# Altium schematic symbol library THU_VIEN_1.SchLib: 81 symbols
Pins are listed as number, name and electrical type; pins without a type are passive.

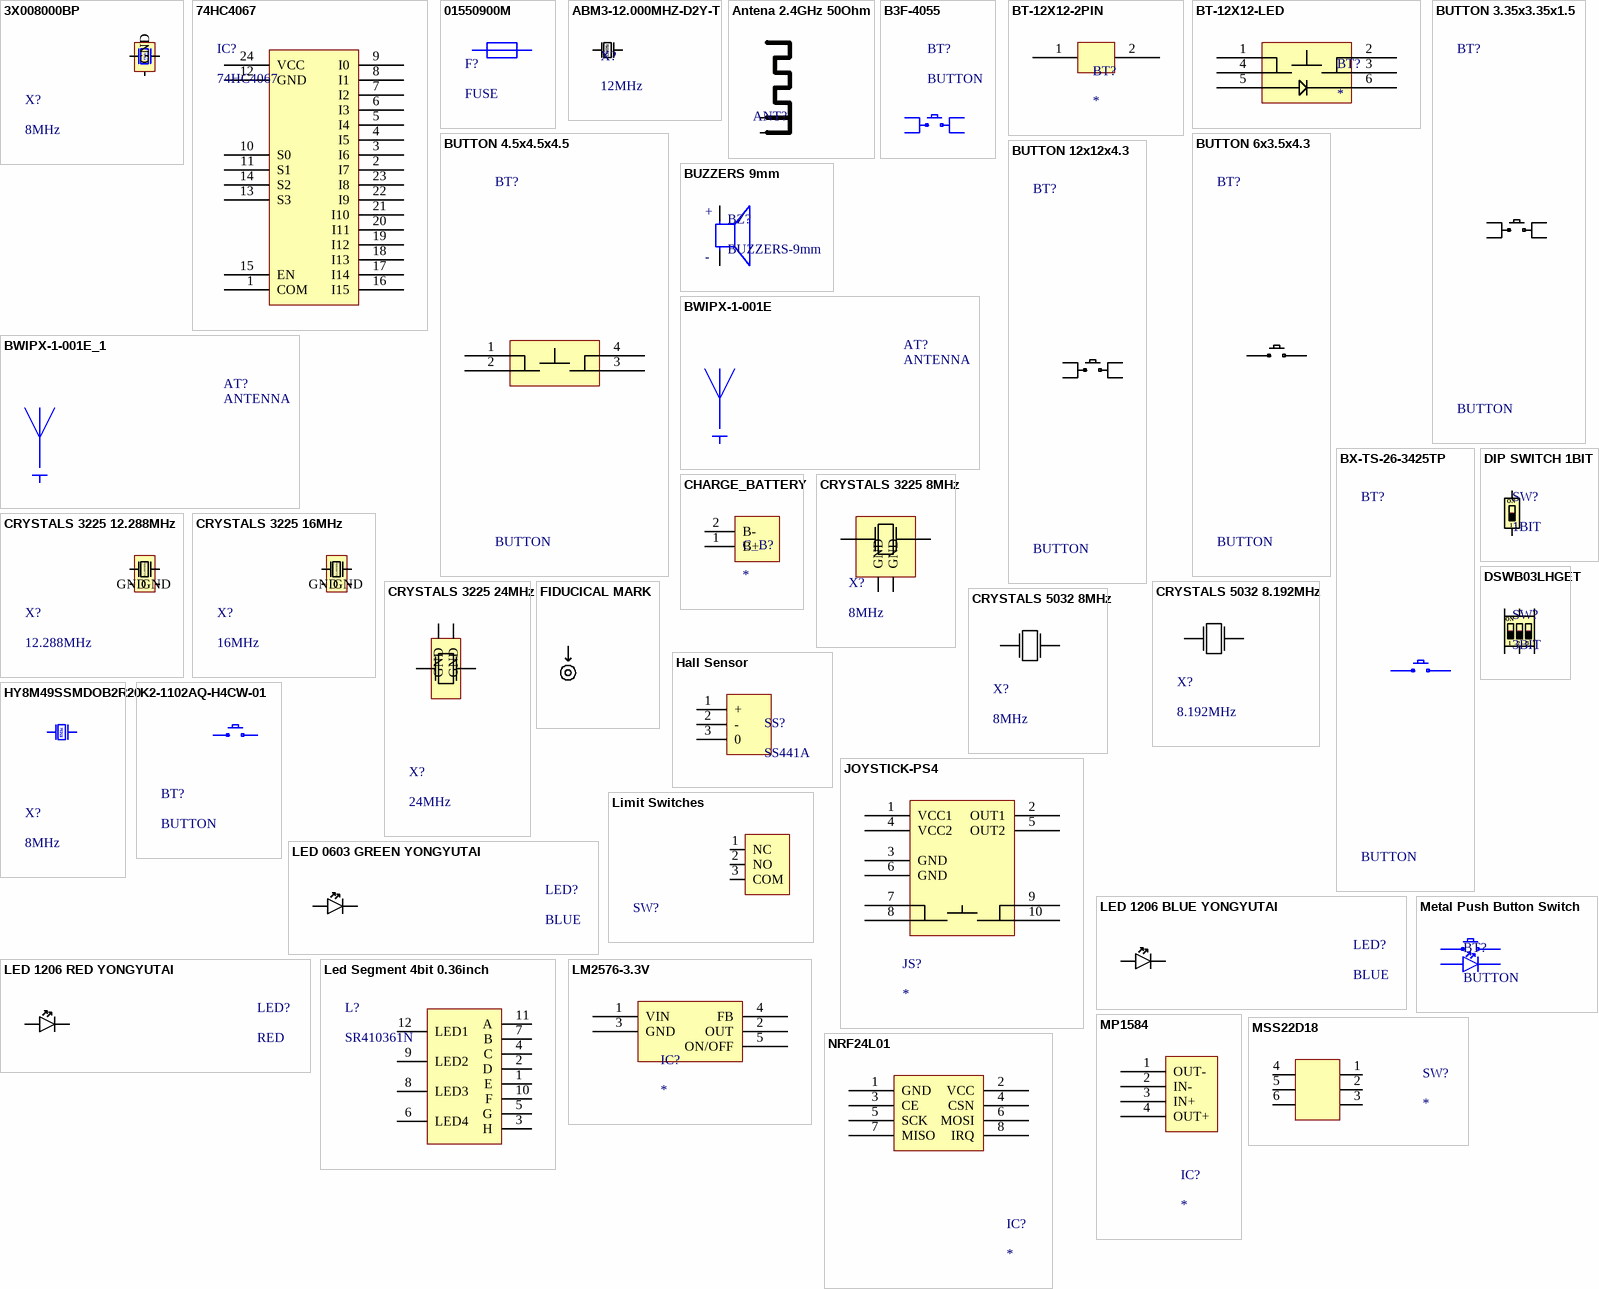
[diagram p0: symbols 3X008000BP to NRF24L01]

## 3X008000BP
designator X?, comment 8MHz
8MHz Surface Mount Crystal 12pF ±10ppm ±30ppm SMD3225-4P Crystals ROHS; Manufacturer: huaxindianzi; Mfr.Part #: 3X008000BP; Package: SMD3225-4P; LCSC Part #: C19723344; DigiKey Part Number: NO
footprint SMD3225-4P
pins: 1, 2 GND, 3, 4 GND

## 74HC4067
designator IC?
SSOP-24-208mil Analog Switches / Multiplexers ROHS; Manufacturer: Nexperia; Mfr.Part #: 74HC4067DB,118; So_Chan_Dan: 24; So_Chan_Cam: 0; Package: SSOP-24-208mil; Name: 74HC4067
footprint SSOP-24-208mil
pins: 1 COM, 2 I7, 3 I6, 4 I5, 5 I4, 6 I3, 7 I2, 8 I1, 9 I0, 10 S0, 11 S1, 12 GND, 13 S3, 14 S2, 15 EN, 16 I15, 17 I14, 18 I13, 19 I12, 20 I11, 21 I10, 22 I9, 23 I8, 24 VCC

## 01550900M
designator F?, comment FUSE
Rectangular prism Bracket type 1 SMD,9.7x5mm Fuseholders RoHS; Manufacturer: Littelfuse; Mfr.Part #: 01550900M; Package: SMD,5.0x9.7mm; LCSC Part #: C108518; DigiKey Part Number: F1889-ND
footprint SMD,5.0x9.7mm
pins: 1, 2

## ABM3-12.000MHZ-D2Y-T
designator X?, comment 12MHz
SMD5032 Crystals ROHS; Manufacturer: Abracon LLC; Mfr.Part #: ABM3-12.000MHZ-D2Y-T; Package: SMD5032; LCSC Part #: C148313
footprint SMD3215
pins: 1, 2

## Antena 2.4GHz 50Ohm
designator ANT?  (value not drawn)
footprint ANTENNA 2.4GHz
pins: 1 GND, 2

## B3F-4055
designator BT?, comment BUTTON
Tactile Switch SPST 7.3mm 12mm x 12mm Through Hole; Manufacturer: OMRON; Mfr.Part #: B3F-4055; LCSC Part #: C84931; Package: Through Hole-4P,12x12mm; DigiKey Part Number: SW414-ND
pins: 1, 2, 3, 4

## BT-12X12-2PIN
designator BT?
footprint BUTTON-12X12-2PIN
pins: 1 14, 2 15

## BT-12X12-LED
designator BT?
footprint BUTTON-12x12-LED
pins: 1 11, 2 13, 3 14, 4 12, 5, 6

## BUTTON 3.35x3.35x1.5
designator BT?, comment BUTTON
3.35mm 1.5mm 50mA Round Button Brick nogging 3.35mm 180gf 12V SMD Tactile Switches ROHS; Manufacturer: BZCN; Mfr.Part #: TSA007A1518B03; Name: BUTTON 3.35x3.35x1.5; So_Chan_Dan: 4; So_Chan_Cam: 0; Package: SMD
footprint BUTTON-3X3X1.5-4PIN
pins: 1, 2, 3, 4

## BUTTON 4.5x4.5x4.5
designator BT?, comment BUTTON
4.5mm 4.5mm Round Button 50mA Brick nogging 4.5mm SPST 12V SMD,4.5x4.5mm Tactile Switches ROHS; Manufacturer: XUNPU; Mfr.Part #: TS-1009S-04526; Name: BUTTON 4.5x4.5x4.5; So_Chan_Dan: 4; So_Chan_Cam: 0; Package: SMD,4.5x4.5mm
footprint SMD,4.5x4.5mm
pins: 1 11, 2 12, 3 14, 4 13

## BUTTON 6x3.5x4.3
designator BT?, comment BUTTON
None Without 50mA 6mm 100MΩ 50,000 times 12V 260gf 3.5mm 4.3mm Round Button Standing paste SPST SMD Tactile Switches ROHS; Manufacturer: HCTL; Mfr.Part #: TC-3602-4.3-260G; Name: BUTTON 6x3.5x4.3; So_Chan_Dan: 2; So_Chan_Cam: 0; Package: BUTTON-6X3.5x4.3-2PIN
footprint BUTTON-6X3.5x4.3-2PIN
pins: 1, 2

## BUTTON 12x12x4.3
designator BT?, comment BUTTON
12mm 4.3mm 50mA Round Button Standing paste 12mm SPST 100MΩ 250gf 12V SMD,12x12mm Tactile Switches ROHS; Manufacturer: Hanbo Electronic; Mfr.Part #: TS-1103S; Name: BUTTON 12x12x4.3; So_Chan_Dan: 0; So_Chan_Cam: 4; Package: SMD,12x12mm
footprint SMD,12x12mm
pins: 1 11, 2 12, 3 14, 4 13

## BUZZERS 9mm
designator BZ?, comment BUZZERS-9mm
85dB Externally Driven Magnetic 2.7kHz Plugin,D=9mm Buzzers ROHS; Manufacturer: Jiangsu Huaneng Elec; Mfr.Part #: QMB-09B-03; Name: BUZZER-9mm; So_Chan_Cam: 2; So_Chan_Dan: 0; Package: Plugin,D=9mm
footprint Plugin,D=9mm
pins: 1, 2
text: +; -

## BWIPX-1-001E
designator AT?, comment ANTENNA
Connector Receptacle IPEX Male Pin 50Ω Surface Mount; Manufacturer: BAT WIRELESS; Mfr.Part #: BWIPX-1-001E; Package: SMD; LCSC Part #: C496552; DigiKey Part Number: NO; ComponentLink1Description: Link; ComponentLink1URL: https://www.lcsc.com/product-detail/C496552.html?s_z=n_BWIPX-1-001E; ComponentLink2Description: Link 1
footprint IPEX-SMD
pins: 1, 2 GND, 3 GND, 4 GND

## BWIPX-1-001E_1
designator AT?, comment ANTENNA
Connector Receptacle IPEX Male Pin 50Ω Surface Mount; Manufacturer: BAT WIRELESS; Mfr.Part #: BWIPX-1-001E; Package: SMD; LCSC Part #: C496552; DigiKey Part Number: NO; ComponentLink1Description: Link; ComponentLink1URL: https://www.lcsc.com/product-detail/C496552.html?s_z=n_BWIPX-1-001E; ComponentLink2Description: Link 1
footprint IPEX-SMD
pins: 1, 2 GND, 3 GND, 4 GND

## BX-TS-26-3425TP
designator BT?, comment BUTTON
Tactile Switch SPST 260gf 2.5mm Gull Wing 3mm x 4mm Surface Mount; Manufacturer: Bossie; Mfr.Part #: BX-TS-26-3425TP; Package: SMD,3x4mm; LCSC Part #: C18078118; DigiKey Part Number: NO; ComponentLink1Description: Link; ComponentLink1URL: https://www.lcsc.com/product-detail/C18078118.html?s_z=n_c18078118; ComponentLink2Description: Link 1
footprint SMD,3x4mm
pins: 1, 2

## CHARGE_BATTERY
designator C_B?
footprint CHARGE_BATTERY
pins: 1 B+, 2 B-

## CRYSTALS 3225 8MHz
designator X?, comment 8MHz
8MHz 20pF ±10ppm ±30ppm SMD3225-4P Crystals ROHS; Manufacturer: Huiyuan crystal; Mfr.Part #: HY8MSMD3225OB1R30; Name: CRYSTALS 3225 8MHz; So_Chan_Dan: 4; So_Chan_Cam: 0; Package: SMD3225-4P
footprint SMD3225-4P
pins: 1, 2 GND, 3, 4 GND

## CRYSTALS 3225 12.288MHz
designator X?, comment 12.288MHz
12.288MHz Surface Mount Crystal 12pF ±10ppm ±20ppm SMD3225-4P Crystals ROHS; Manufacturer: Yajingxin; Mfr.Part #: TXM12.288M0004322FBCDO00T; Name: CRYSTALS 3225 12.288MHz; So_Chan_Dan: 4; So_Chan_Cam: 0; Package: SMD3225-4P
footprint SMD3225-4P
pins: 1, 2 GND, 3, 4 GND

## CRYSTALS 3225 16MHz
designator X?, comment 16MHz
16MHz 20pF ±10ppm SMD3225-4P Crystals ROHS; Manufacturer: Huiyuan crystal; Mfr.Part #: HY16MSMD3225OB1R30; Name: CRYSTALS 3225 16MHz; So_Chan_Dan: 4; So_Chan_Cam: 0; Package: SMD3225-4P
footprint SMD3225-4P
pins: 1, 2 GND, 3, 4 GND
text: 12.288MHz

## CRYSTALS 3225 24MHz
designator X?, comment 24MHz
24MHz Surface Mount Crystal 20pF ±20ppm ±20ppm SMD3225-4P Crystals ROHS; Manufacturer: TAITIEN Elec; Mfr.Part #: XXHCCLNANF-24MHZ; Name: CRYSTALS 3225 24MHz; So_Chan_Dan: 4; So_Chan_Cam: 0; Package: SMD3225-4P
footprint SMD3225-4P
pins: 1, 2 GND, 3, 4 GND

## CRYSTALS 5032 8.192MHz
designator X?, comment 8.192MHz
12pF 8.192MHz ±50ppm ±30ppm Surface Mount Crystal SMD5032 Crystals ROHS; Manufacturer: HCI; Mfr.Part #: XC53G2-8.192-F12JGDTL; Name: CRYSTALS 5032 8.192MHz; So_Chan_Dan: 2; So_Chan_Cam: 0; Package: SMD5032
footprint SMD5032
pins: 1, 2

## CRYSTALS 5032 8MHz
designator X?, comment 8MHz
8MHz 20pF ±10ppm SMD5032 Crystals ROHS; Manufacturer: SST; Mfr.Part #: S50328M20PF20PPMB; Name: CRYSTALS 5032 8MHz; So_Chan_Dan: 2; So_Chan_Cam: 0; Package: SMD5032
footprint SMD5032
pins: 1, 2

## DIP SWITCH 1BIT
designator SW?, comment 1BIT
1 Digit SPST Red Flat Toggle, Raised Style Plugin,9.9x4mm DIP Switches ROHS; Manufacturer: DongGuan KINGTEK Industrial Co.,LTD; Mfr.Part #: DSWB01LHGET; Name: DIP SWITCH 1BIT; So_Chan_Dan: 0; So_Chan_Cam: 2; Package: Plugin
footprint DIP SWITCH 1BIT
pins: 1, 2
text: ON

## DSWB03LHGET
designator SW?, comment 3BIT
3 SPST Red Slide, Rocked Through Hole DIP Switches ROHS; Manufacturer: YE; Mfr.Part #: DSWB03LHGET; Package: Through Hole; LCSC Part #: C99420
footprint DIP SWITCH 3BIT
pins: 1, 2, 3, 4, 5, 6
text: ON

## FIDUCICAL MARK
designator Mark?
Fiducial mark
footprint Fiducial mark

## Hall Sensor
designator SS?, comment SS441A
115Gs 20Gs TO-92S Hall Sensor ROHS
footprint TO-92S
pins: 1 +, 2 -, 3 0

## HY8M49SSMDOB2R20
designator X?, comment 8MHz
Crystal 8MHz ±20ppm 20pF 60Ω HC-49S-SMD; Manufacturer: Huiyuan crystal; Mfr.Part #: HY8M49SSMDOB2R20; Package: HC-49S-SMD; LCSC Part #: C5265773; DigiKey Part Number: NO
footprint HC-49S-SMD
pins: 1, 2
text: 8Mhz

## JOYSTICK-PS4
designator JS?
footprint JOYTICK-PS4
footprint JOYTICK-PS4
pins: 1 VCC1, 2 OUT1, 3 GND, 4 VCC2, 5 OUT2, 6 GND, 7 BT1, 8 BT2, 9 BT3, 10 BT4

## K2-1102AQ-H4CW-01
designator BT?, comment BUTTON
Tactile Switch 250gf 7.5mm 6mm x 6mm Through Hole, Right Angle; Manufacturer: Korean Hroparts Elec; Mfr.Part #: K2-1102AQ-H4CW-01; Package: Through Hole,Right Angle,6x6mm; LCSC Part #: C961738; DigiKey Part Number: NO; ComponentLink1Description: Link; ComponentLink1URL: https://www.lcsc.com/product-detail/C961738.html?s_z=n_K2-1102AQ-H4CW-01; ComponentLink2Description: Link 1; ComponentLink2URL: *
footprint K2-1102AQ-H4CW-01
pins: 1, 2

## LED 0603 GREEN YONGYUTAI
designator LED?, comment BLUE
Emerald 2.7V~3.2V 25mA -40℃~+85℃ 510nm~531nm 0603 LED Indication - Discrete ROHS; Manufacturer: YONGYUTAI; Mfr.Part #: YLED0603G; Name: LED 0603 GREEN YONGYUTAI; So_Chan_Dan: 2; So_Chan_Cam: 0; Package: 0603
footprint LED-0603
pins: 1 A, 2 K

## LED 1206 BLUE YONGYUTAI
designator LED?, comment BLUE
1206 LED Indication - Discrete ROHS; Manufacturer: YONGYUTAI; Mfr.Part #: YLED1206B; So_Chan_Cam: 0; So_Chan_Dan: 2; Name: LED 1206 BLUE YONGYUTAI; Package: 1206
footprint LED-BLUE-1206
pins: 1 A, 2 K

## LED 1206 RED YONGYUTAI
designator LED?, comment RED
1206 LED Indication - Discrete ROHS; Manufacturer: YONGYUTAI; Mfr.Part #: YLED1206R; So_Chan_Cam: 0; So_Chan_Dan: 2; Name: LED 1206 RED YONGYUTAI; Package: 1206
footprint LED-RED-1206
pins: 1 A, 2 K

## Led Segment 4bit 0.36inch
designator L?, comment SR410361N
Red 4Bit Common anode 0.36 Plugin Led Segment Display ROHS
footprint LED_7_THANH_4_SO_0.36_INCH
pins: 1 E, 2 D, 3 H, 4 C, 5 G, 6 LED4, 7 B, 8 LED3, 9 LED2, 10 F, 11 A, 12 LED1

## Limit Switches
designator SW?  (value not drawn)
1A 30V Single Pole Double Throw (SPDT) Micro switch 1,000,000 Times Plugin Limit Switches ROHS; Manufacturer: XKB Connection; Mfr.Part #: DM1-150D-1; So_Chan_Dan: 0; So_Chan_Cam: 3; Package: Plugin; Name: Limit Switches
footprint Plugin, P=5.08
pins: 1 NC, 2 NO, 3 COM

## LM2576-3.3V
designator IC?
footprint TO220-5PIN
pins: 1 VIN, 2 OUT, 3 GND, 4 FB, 5 ON/OFF

## Metal Push Button Switch
designator BT?, comment BUTTON
ComponentLink1Description: Link
footprint Metal Push Button Switch
pins: 1, 2, 3, 4

## MP1584
designator IC?
footprint MP1584
pins: 1 OUT-, 2 IN-, 3 IN+, 4 OUT+

## MSS22D18
designator SW?
SMD
footprint MSS22D18 SMD
pins: 1 77, 2 78, 3 79, 4, 5 81, 6 82

## NRF24L01
designator IC?
footprint NRF24L01
pins: 1 GND, 2 VCC, 3 CE, 4 CSN, 5 SCK, 6 MOSI, 7 MISO, 8 IRQ

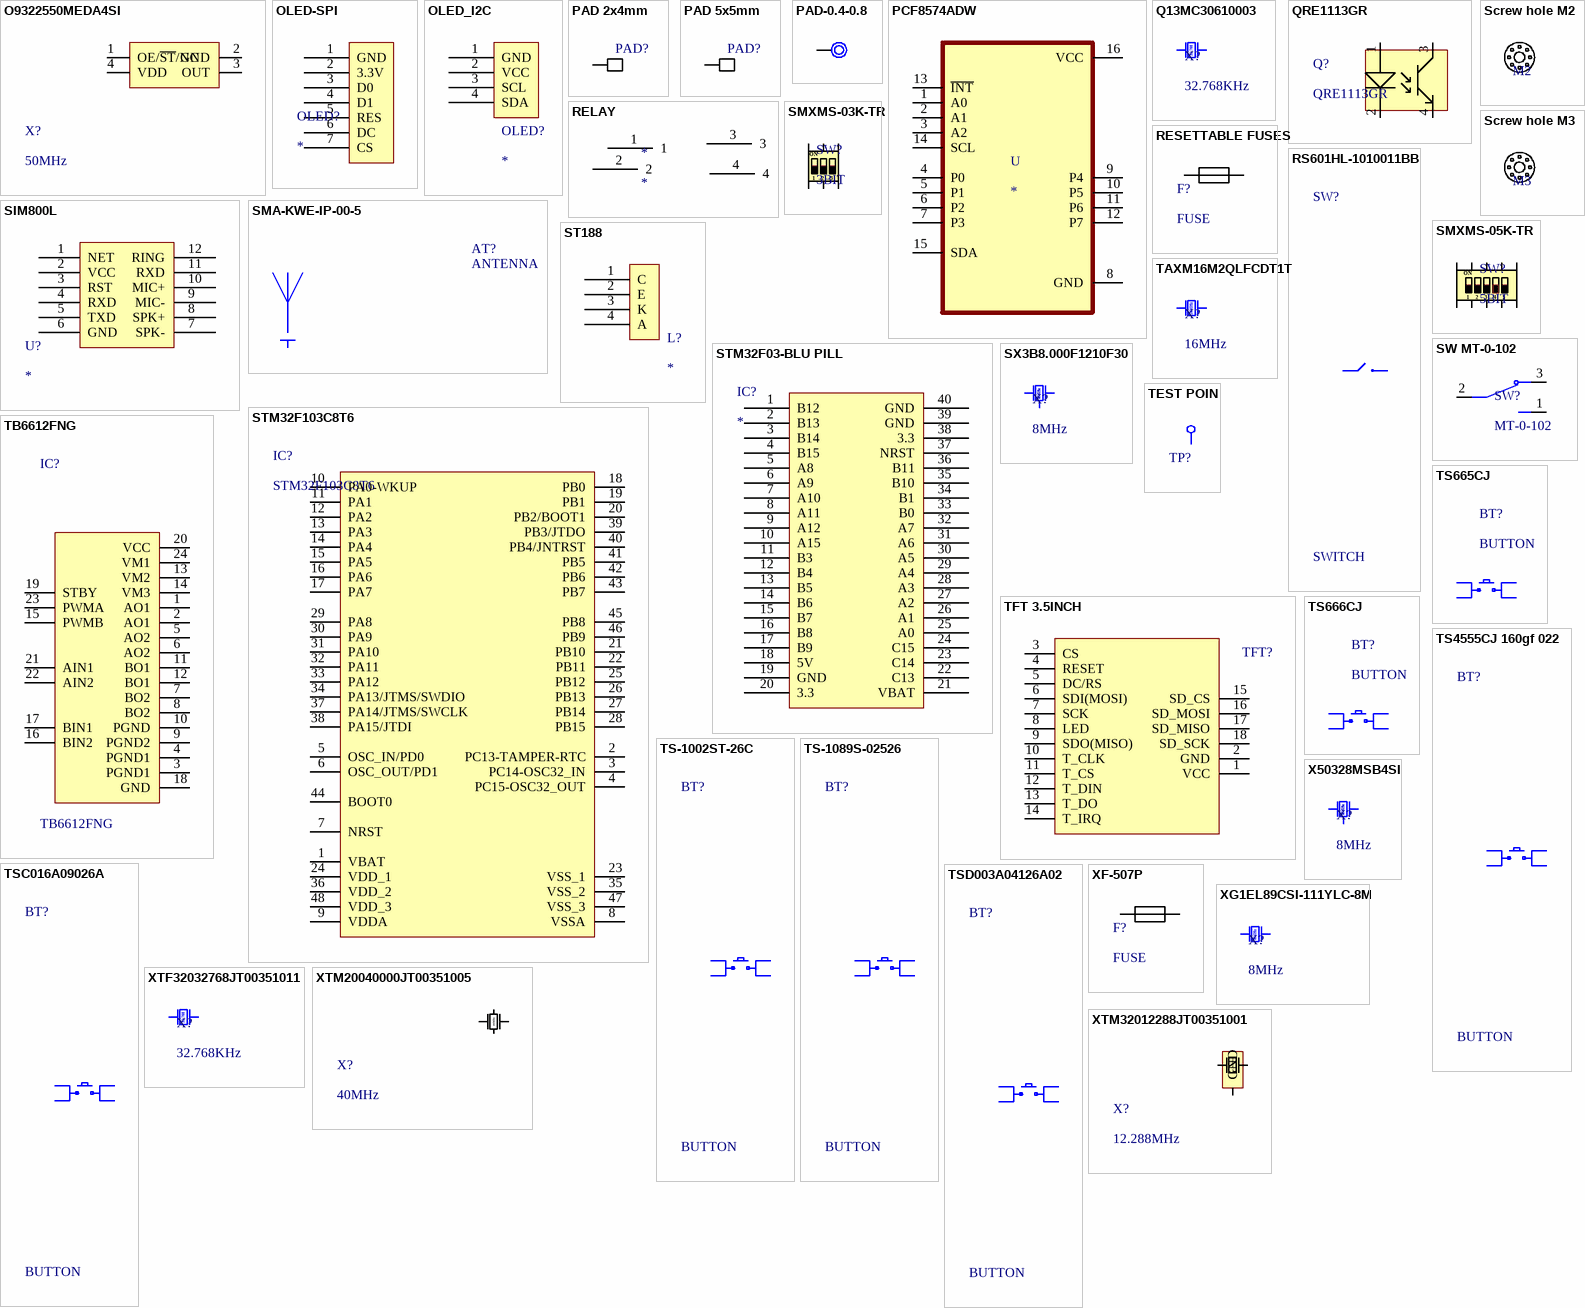
[diagram p1: symbols O9322550MEDA4SI to XTM32012288JT00351001]

## O9322550MEDA4SI
designator X?, comment 50MHz
3.3V CMOS ±30ppm 50MHz SMD3225-4P Oscillators RoHS; Manufacturer: YXC Crystal Oscillators; Mfr.Part #: O9322550MEDA4SI; Package: SMD3225-4P; LCSC Part #: C496690; DigiKey Part Number: NO
footprint SMD3225-4P
pins: 1 OE/~{ST}/NC, 2 GND, 3 OUT, 4 VDD

## OLED-SPI
designator OLED?
footprint OLED-SPI-2
pins: 1 GND, 2 3.3V, 3 D0, 4 D1, 5 RES, 6 DC, 7 CS

## OLED_I2C
designator OLED?
0.96
footprint OLED_I2C_0.96
pins: 1 GND, 2 VCC, 3 SCL, 4 SDA

## PAD 2x4mm
designator PAD?  (value not drawn)
footprint PAD, 2x4mm
pins: 1

## PAD 5x5mm
designator PAD?, comment PAD 2x4mm  (value not drawn)
footprint PAD, 2x4mm
pins: 1

## PAD-0.4-0.8
designator ?
footprint PAD,0.4,0.8
pins: 0

## PCF8574ADW
designator U
Remote 8-Bit I/O Expander for I2C-Bus 16-SOIC -40 to 85; MF: Texas Instruments; MP: PCF8574ADW; Mouser-Purchase-URL: https://snapeda.com/shop?store=Mouser&id=554599; SnapEDA_Link: https://www.snapeda.com/parts/PCF8574ADW/Texas%20Instruments/view-part/554599/?ref=snap; DigiKey-Purchase-URL: https://snapeda.com/shop?store=DigiKey&id=554599; Package: SOIC-16 Texas Instruments; Price: None; Availability: Warning; Texas_Instruments-Purchase-URL: https://snapeda.com/shop?store=Texas+Instruments&id=554599; Value: *
footprint SO16W
pins: 1 A0, 2 A1, 3 A2, 4 P0, 5 P1, 6 P2, 7 P3, 8 GND (power), 9 P4, 10 P5, 11 P6, 12 P7, 13 ~{INT}, 14 SCL, 15 SDA, 16 VCC (power)

## Q13MC30610003
designator X?, comment 32.768KHz
Crystal 32.768kHz ±20ppm 12.5pF 35kΩ MC-306; Manufacturer: EPSON; Mfr.Part #: Q13MC30610003; Package: MC-306; LCSC Part #: C16320; DigiKey Part Number: SER2407TR-ND
footprint MC-306
pins: 1, 4
text: 32.768

## QRE1113GR
designator Q?
20mA 1mm SMD-4P Reflective Optical Interrupters ROHS; Manufacturer: onsemi; So_Chan_Dan: 4; So_Chan_Cam: 0; Mfr.Part #: QRE1113GR; Package: SMD-4P; Name: QRE1113GR
footprint SMD-4P
pins: 1, 2, 3, 4

## RELAY
designator *
footprint Plugin,10.2x18.4mm
pins: 1, 2, 3, 4

## RESETTABLE FUSES
designator F?, comment FUSE
60V 500mA 40A 1A Plugin Resettable Fuses ROHS; Manufacturer: RUILON(Shenzhen Ruilongyuan Elec); Mfr.Part #: RL60-050; So_Chan_Dan: 0; So_Chan_Cam: 2; Package: Plugin; Name: RESETTABLE FUSES
footprint Plugin
pins: 1, 2

## RS601HL-1010011BB
designator SW?, comment SWITCH
SPST 10,000 times 3A Solder 250V None Plugin Rocker Switches ROHS; Manufacturer: HCTL; Mfr.Part #: RS601HL-1010011BB; Package: Through Hole,15x10.5mm; LCSC Part #: C2885782; DigiKey Part Number: NO
footprint Plugin,Rocker Switches
pins: 1, 2

## Screw hole M2
designator S?, comment M2
footprint Screw hole M2

## Screw hole M3
designator ?, comment M3
footprint Screw hole M3

## SIM800L
designator U?
footprint SIM800L
pins: 1 NET "50", 2 VCC, 3 RST, 4 RXD, 5 TXD, 6 GND, 7 SPK-, 8 SPK+, 9 MIC-, 10 MIC+, 11 RXD, 12 RING "50"

## SMA-KWE-IP-00-5
designator AT?, comment ANTENNA
SMA to IPEX Gen 1 Coaxial Cables (RF) Assemblies RoHS; Manufacturer: SAMZO; Mfr.Part #: SMA-KWE-IP-00-5; Package: Through Hole, Right Angle; LCSC Part #: C47121936; DigiKey Part Number: NO; ComponentLink1Description: Link; ComponentLink1URL: https://www.lcsc.com/product-detail/C47121936.html; ComponentLink2Description: Link 1
footprint ANTENNA, Through Hole, Right Angle
pins: 1 GND

## SMXMS-03K-TR
designator SW?, comment 3BIT
3 24V Black 25mA SMD-6P,5.4x5.4mm DIP Switches ROHS; Manufacturer: SM Switch; Mfr.Part #: SMXMS-03K-TR; Package: SMD-6P,5.4x5.4mm; LCSC Part #: C19272175
footprint SMD-6P,5.4x5.4mm
pins: 1, 2, 3, 4, 5, 6
text: ON

## SMXMS-05K-TR
designator SW?, comment 5BIT
5 Digits 24V Black 25mA SMD-10P,7.9x5.4mm DIP Switches ROHS; Manufacturer: SM Switch; Mfr.Part #: SMXMS-05K-TR; So_Chan_Dan: 5; So_Chan_Cam: 0; Package: SMD-10P,7.9x5.4mm; Name: SMXMS-05K-TR
footprint SMD-10P,7.9x5.4mm
pins: 1, 2, 3, 4, 5, 6, 7, 8, 9, 10
text: ON

## ST188
designator L?
footprint ST188
pins: 1 C, 2 E, 3 K, 4 A

## STM32F03-BLU PILL
designator IC?
footprint STM32F103C8T6 - Blue Pill
pins: 1 B12, 2 B13, 3 B14, 4 B15, 5 A8, 6 A9, 7 A10, 8 A11, 9 A12, 10 A15, 11 B3, 12 B4, 13 B5, 14 B6, 15 B7, 16 B8, 17 B9, 18 5V, 19 GND, 20 3.3, 21 VBAT, 22 C13, 23 C14, 24 C15, 25 A0, 26 A1, 27 A2, 28 A3, 29 A4, 30 A5, 31 A6, 32 A7, 33 B0, 34 B1, 35 B10, 36 B11, 37 NRST, 38 3.3, 39 GND, 40 GND

## STM32F103C8T6
designator IC?
ARM Cortex-M3 32 Bit 72MHz 37 LQFP-48(7x7) Microcontrollers RoHS; Manufacturer: ST; Mfr.Part #: STM32F103C8T6; Package: LQFP-48(7x7); LCSC Part #: C8734; DigiKey Part Number: 497-6063-ND; ComponentLink1Description: Link; ComponentLink1URL: https://www.lcsc.com/product-detail/C8734.html?s_z=n_STM32F103C8T6; ComponentLink2Description: Link 1; ComponentLink2URL: https://www.digikey.com/en/products/detail/stmicroelectronics/STM32F103C8T6/1646338
footprint LQFP-48(7x7)
pins: 1 VBAT, 2 PC13-TAMPER-RTC, 3 PC14-OSC32_IN, 4 PC15-OSC32_OUT, 5 OSC_IN/PD0, 6 OSC_OUT/PD1, 7 NRST, 8 VSSA, 9 VDDA, 10 PA0-WKUP, 11 PA1, 12 PA2, 13 PA3, 14 PA4, 15 PA5, 16 PA6, 17 PA7, 18 PB0, 19 PB1, 20 PB2/BOOT1, 21 PB10, 22 PB11, 23 VSS_1, 24 VDD_1, 25 PB12, 26 PB13, 27 PB14, 28 PB15, 29 PA8, 30 PA9, 31 PA10, 32 PA11, 33 PA12, 34 PA13/JTMS/SWDIO, 35 VSS_2, 36 VDD_2, 37 PA14/JTMS/SWCLK, 38 PA15/JTDI, 39 PB3/JTDO, 40 PB4/JNTRST, 41 PB5, 42 PB6, 43 PB7, 44 BOOT0, 45 PB8, 46 PB9, 47 VSS_3, 48 VDD_3

## SW MT-0-102
designator SW?, comment MT-0-102
125V SPDT Straight 5A Plugin Toggle Switches ROHS; Manufacturer: YUEN FUNG; Mfr.Part #: MT-0-102-A101-M200-RS; Name: SW MT-0-102; So_Chan_Cam: 3; So_Chan_Dan: 0; Package: Plugin
footprint SW, Plugin,3P
pins: 1, 2, 3

## SX3B8.000F1210F30
designator X?, comment 8MHz
8MHz Crystal Oscillator 12pF ±10ppm ±30ppm SMD3225-4P Crystals ROHS; Manufacturer: Shenzhen SCTF Elec; Mfr.Part #: SX3B8.000F1210F30; Package: SMD3225-4P; LCSC Part #: C2901645; DigiKey Part Number: 5852-SX3B8.000F1210F30TR-ND
footprint SMD3225-4P
pins: 1, 2 GND, 3, 4 GND

## TAXM16M2QLFCDT1T
designator X?, comment 16MHz
Crystal Oscillator 20pF SMD5032-2P Crystals RoHS; Manufacturer: Yajingxin; Mfr.Part #: TAXM16M2QLFCDT1T; Package: SMD5032-2P; LCSC Part #: C122519; DigiKey Part Number: NO
footprint SMD5032
pins: 1, 2

## TB6612FNG
designator IC?
1A Brush DC Motor 2.7V~5.5V Parallel SSOP-24 Motor Driver ICs ROHS; Manufacturer: TOSHIBA; Mfr.Part #: TB6612FNG,C,8,EL; Package: SSOP-24; LCSC Part #: C141517; DigiKey Part Number: TB6612FNGC8ELTR-ND
footprint SSOP-24
pins: 1 AO1, 2 AO1, 3 PGND1, 4 PGND1, 5 AO2, 6 AO2, 7 BO2, 8 BO2, 9 PGND2, 10 PGND, 11 BO1, 12 BO1, 13 VM2 (power), 14 VM3 (power), 15 PWMB, 16 BIN2, 17 BIN1, 18 GND, 19 STBY, 20 VCC (power), 21 AIN1, 22 AIN2, 23 PWMA, 24 VM1 (power)

## TEST POIN
designator TP?, comment TP  (value not drawn)
Test poin; Manufacturer: NO; Mfr.Part #: NO; Package: SMD,D=1mm; LCSC Part #: NO; DigiKey Part Number: NO
footprint TEST POIN D=12=mm
pins: 1

## TFT 3.5INCH
designator TFT?, comment RED  (value not drawn)
TFT 3.5INCH; So_Chan_Cam: 18; So_Chan_Dan: 0; Manufacturer: TFT 3.5INCH; Mfr.Part #: TFT 3.5INCH; Package: TFT 3.5INCH; Name: TFT 3.5INCH
footprint TFT 3.5INCH 1
pins: 1 VCC, 2 GND, 3 CS, 4 RESET, 5 DC/RS, 6 SDI(MOSI), 7 SCK, 8 LED, 9 SDO(MISO), 10 T_CLK, 11 T_CS, 12 T_DIN, 13 T_DO, 14 T_IRQ, 15 SD_CS, 16 SD_MOSI, 17 SD_MISO, 18 SD_SCK

## TS665CJ
designator BT?, comment BUTTON
Tactile Switch SPST 5mm 6mm x 6mm Through Hole; Manufacturer: SHOU HAN; Mfr.Part #: TS665CJ; LCSC Part #: C393938; Package: Through Hole-4P,6x6mm; DigiKey Part Number: NO; ComponentLink1Description: Link; ComponentLink1URL: https://www.lcsc.com/product-detail/C393938.html
footprint Through Hole-4P,6x6x5mm
pins: 1, 2, 3, 4

## TS666CJ
designator BT?, comment BUTTON
Tactile Switch SPST 250gf 6mm PC Pin 6mm x 6mm Through Hole; Manufacturer: SHOU HAN; Mfr.Part #: TS666CJ; LCSC Part #: C557621; Package: Through Hole-4P,6x6mm; DigiKey Part Number: NO; ComponentLink1Description: Link; ComponentLink1URL: https://www.lcsc.com/product-detail/C557621.html
footprint Through Hole-4P,6x6x6mm
pins: 1, 2, 3, 4

## TS4555CJ 160gf 022
designator BT?, comment BUTTON
Without Bracket 12V Round Button No SPST 50mA Through Hole-4P,4.5x4.5mm Tactile Switches ROHS; Manufacturer: SHOU HAN; Mfr.Part #: TS4555CJ 160gf 022; Package: Through Hole-4P,4.5x4.5mm; LCSC Part #: C5369124; DigiKey Part Number: NO
footprint Plugin, Button 4.5x4.5mm
pins: 1, 2, 3, 4

## TS-1002ST-26C
designator BT?, comment BUTTON
Tactile Switch SPST 7.3mm 6mm x 6mm Surface Mount; Manufacturer: XUNPU; Mfr.Part #: TS-1002ST-26C; Package: SMD-4P,6x6mm; LCSC Part #: C455199; DigiKey Part Number: NO
footprint BUTTON-6x6x7.3-4PIN-SQUARE
pins: 1, 2, 3, 4

## TS-1089S-02526
designator BT?, comment BUTTON
3.25mm 2.5mm Oval button 50mA Standing paste 4.2mm SPST 12V SMD,3.3x4.2mm Tactile Switches ROHS; Manufacturer: XUNPU; Mfr.Part #: TS-1089S-02526; Package: SMD,3.3x4.2mm; LCSC Part #: C455282; DigiKey Part Number: NO
footprint SMD,3.3x4.2mm
pins: 1, 2, 3, 4

## TSC016A09026A
designator BT?, comment BUTTON
4.5mm 9mm 50mA Round Button Straight 4.5mm 2.6N 12V Plugin Tactile Switches ROHS; Manufacturer: BZCN; Mfr.Part #: TSC016A09026A; Package: Through Hole-4P,4.5x4.5mm; LCSC Part #: C2888899
footprint Plugin, Button 4.5x4.5mm
pins: 1, 2, 3, 4

## TSD003A04126A02
designator BT?, comment BUTTON
6mm 4.1mm 50mA Round Button Vertical welding 6mm 2.6N 12V SMD Tactile Switches ROHS; Manufacturer: BZCN; Mfr.Part #: TSD003A04126A02; Package: SMD
footprint BUTTON-6x6x4.1-4PIN
pins: 1, 2, 3, 4

## X50328MSB4SI
designator X?, comment 8MHz
Crystal 8MHz ±10ppm 20pF SMD5032-4P; Manufacturer: YXC Crystal Oscillators; Mfr.Part #: X50328MSB4SI; Package: SMD5032-4P; LCSC Part #: C157341; DigiKey Part Number: NO; ComponentLink1Description: Link; ComponentLink1URL: https://www.lcsc.com/product-detail/C157341.html?s_z=n_c157341; ComponentLink2Description: Link 1
footprint SMD5032-4P
pins: 1, 2 GND, 3, 4 GND

## XF-507P
designator F?, comment FUSE
Fuseholders ROHS; Manufacturer: XFCN; Mfr.Part #: XF-507P; Package: Plugin
footprint XF-507P
pins: 1, 2

## XG1EL89CSI-111YLC-8M
designator X?, comment 8MHz
Crystal 8MHz ±10ppm 20pF SMD5032-2P; Manufacturer: YXC Crystal Oscillators; Mfr.Part #: XG1EL89CSI-111YLC-8M; Package: SMD5032-2P; LCSC Part #: C5280575; DigiKey Part Number: NO; ComponentLink1Description: Link; ComponentLink1URL: https://www.lcsc.com/product-detail/C5280575.html
footprint SMD5032
pins: 1, 2

## XTF32032768JT00351011
designator X?, comment 32.768KHz
Crystal Oscillator 12pF SMD3215-2P Crystals RoHS; Manufacturer: TOGNJING; Mfr.Part #: XTF32032768JT00351011; Package: SMD3215; LCSC Part #: C37635363; DigiKey Part Number: NO
footprint SMD3215
pins: 1, 2
text: 32.768

## XTM20040000JT00351005
designator X?, comment 40MHz
40MHz Surface Mount Crystal 12pF ±10ppm ±20ppm SMD2016-4P Crystals ROHS; Manufacturer: TOGNJING; Mfr.Part #: XTM20040000JT00351005; So_Chan_Dan: 4; So_Chan_Cam: 0; Package: SMD2016-4P; Name: XTM20040000JT00351005
footprint SMD2016-4P
pins: 1, 2 GND, 3, 4 GND

## XTM32012288JT00351001
designator X?, comment 12.288MHz
12.288MHz Crystal Oscillator 12pF ±10ppm ±10ppm SMD3225-4P Crystals ROHS; Manufacturer: TOGNJING; Mfr.Part #: XTM32012288JT00351001; Package: SMD3225-4P; LCSC Part #: C41383238; ComponentLink1Description: Link; ComponentLink1URL: https://www.lcsc.com/product-detail/C41383238.html?s_z=n_XTM32012288JT00351001; ComponentLink2Description: Link 1; DigiKey Part Number: NO
footprint SMD3225-4P
pins: 1, 2 GND, 3, 4 GND

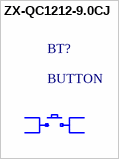
[diagram p2: symbol ZX-QC1212-9.0CJ]

## ZX-QC1212-9.0CJ
designator BT?, comment BUTTON
Without Bracket 12mm 12V 12mm Round Button SPST 50mA Through Hole,12x12mm Tactile Switches RoHS; Manufacturer: Megastar; Mfr.Part #: ZX-QC1212-9.0CJ; LCSC Part #: C7470193; Package: Through Hole,12x12mm; DigiKey Part Number: NO
footprint BUTTON-12x12x9mm
pins: 1, 2, 3, 4